# EAGLE library part 74HC4050D (library microbuilder)
6-channel level shifter 74HC4050D - 2V-6V Supply SOIC16 Digikey: 74HC4050D,653-ND Mouser: 771-74HC4050D-T TSSOP16 Digikey: 296-9215-1-ND Mouser:
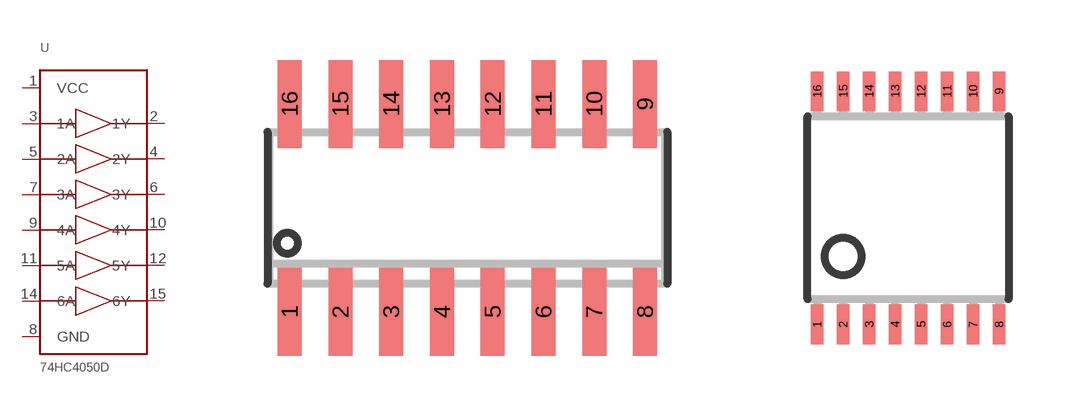
[diagram p0: symbol with the pads of SOIC16; footprints SOIC16, TSSOP16]

Designator prefix U

## 74HC4050D  [SOIC16]
1  VCC
2  1Y
3  1A
4  2Y
5  2A
6  3Y
7  3A
8  GND
9  4A
10  4Y
11  5A
12  5Y
14  6A
15  6Y

## 74HC4050DTSSOP  [TSSOP16]
Pads as for SOIC16

## Footprint SOIC16 (pad centres in mm)
SMALL OUTLINE INTEGRATED CIRCUIT
smd 0.6 x 2.2: 1 -4.445,-2.6; 2 -3.175,-2.6; 3 -1.905,-2.6; 4 -0.635,-2.6; 5 0.635,-2.6; 6 1.905,-2.6; 7 3.175,-2.6; 8 4.445,-2.6; 9 4.445,2.6; 10 3.175,2.6; 11 1.905,2.6; 12 0.635,2.6; 13 -0.635,2.6; 14 -1.905,2.6; 15 -3.175,2.6; 16 -4.445,2.6

## Footprint TSSOP16 (pad centres in mm)
Thin Shrink Small Outline Plastic 16
smd 0.305 x 0.991: 1 -2.275,-2.918; 2 -1.625,-2.918; 3 -0.975,-2.918; 4 -0.325,-2.918; 5 0.325,-2.918; 6 0.975,-2.918; 7 1.625,-2.918; 8 2.275,-2.918; 9 2.275,2.918; 10 1.625,2.918; 11 0.975,2.918; 12 0.325,2.918; 13 -0.325,2.918; 14 -0.975,2.918; 15 -1.625,2.918; 16 -2.275,2.918